# EAGLE library part HD-F103 (library display-hp)
LED DISPLAY 1-character 7 segment, decimal point right
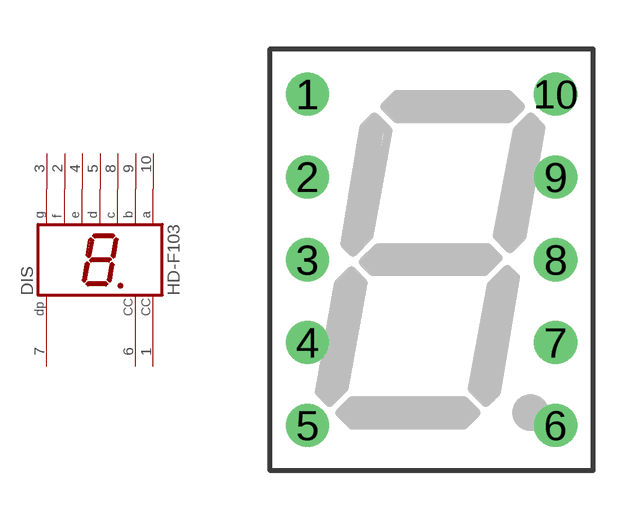
[diagram p6: symbol with the pads of HDSP-E; footprint HDSP-E]

Designator prefix DIS

## HD-F103 (OC_FARNELL: unknown; OC_NEWARK: unknown)  [HDSP-E]
1  CC  pas
2  F  pas
3  G  pas
4  E  pas
5  D  pas
6  CC  pas
7  DP  pas
8  C  pas
9  B  pas
10  A  pas

## Footprint HDSP-E (pad centres in mm)
LED DISPLAY 10-mm 1 character 7 segment, decimal point right
drill 0.813: 1 -3.81,5.08; 2 -3.81,2.54; 3 -3.81,0; 4 -3.81,-2.54; 5 -3.81,-5.08; 6 3.81,-5.08; 7 3.81,-2.54; 8 3.81,0; 9 3.81,2.54; 10 3.81,5.08